# EAGLE library part DIP-BLACK-MALE-HEADER(12P-2.54) (library Seeed-OPL-Connector)
320020112
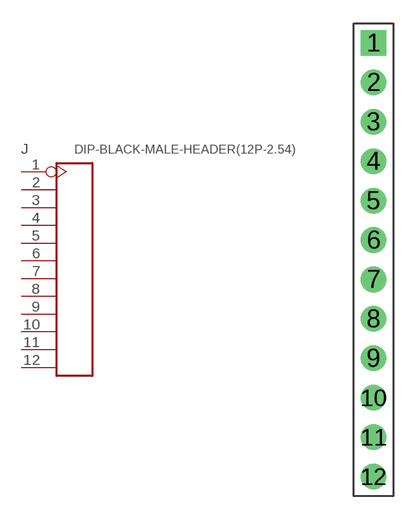
[diagram p84: symbol with the pads of H12-2.54; footprint H12-2.54]

Designator prefix J

## DIP-BLACK-MALE-HEADER(12P-2.54) (MPN: P125-1112A0BS116AX; VALUE: 12p-2.54)  [H12-2.54]
1  1
2  2
3  3
4  4
5  5
6  6
7  7
8  8
9  9
10  10
11  11
12  12

## Footprint H12-2.54 (pad centres in mm)
drill 0.889 pad 1.651 square: 1 0,13.97
drill 0.889 pad 1.651: 2 0,11.43; 3 0,8.89; 4 0,6.35; 5 0,3.81; 6 0,1.27; 7 0,-1.27; 8 0,-3.81; 9 0,-6.35; 10 0,-8.89; 11 0,-11.43; 12 0,-13.97